# Altium footprint library NORA.PcbLib: 7 footprints
Each footprint in its own frame and in the unit in brackets; x right, y up, seen from the top. Pads: shape width x height; smd on the part's side, far side on the other; paste and mask are expansions set on the pad; w line width, h text height; cw(c..) or ccw(c..) is an arc to the next point about the centre after c.
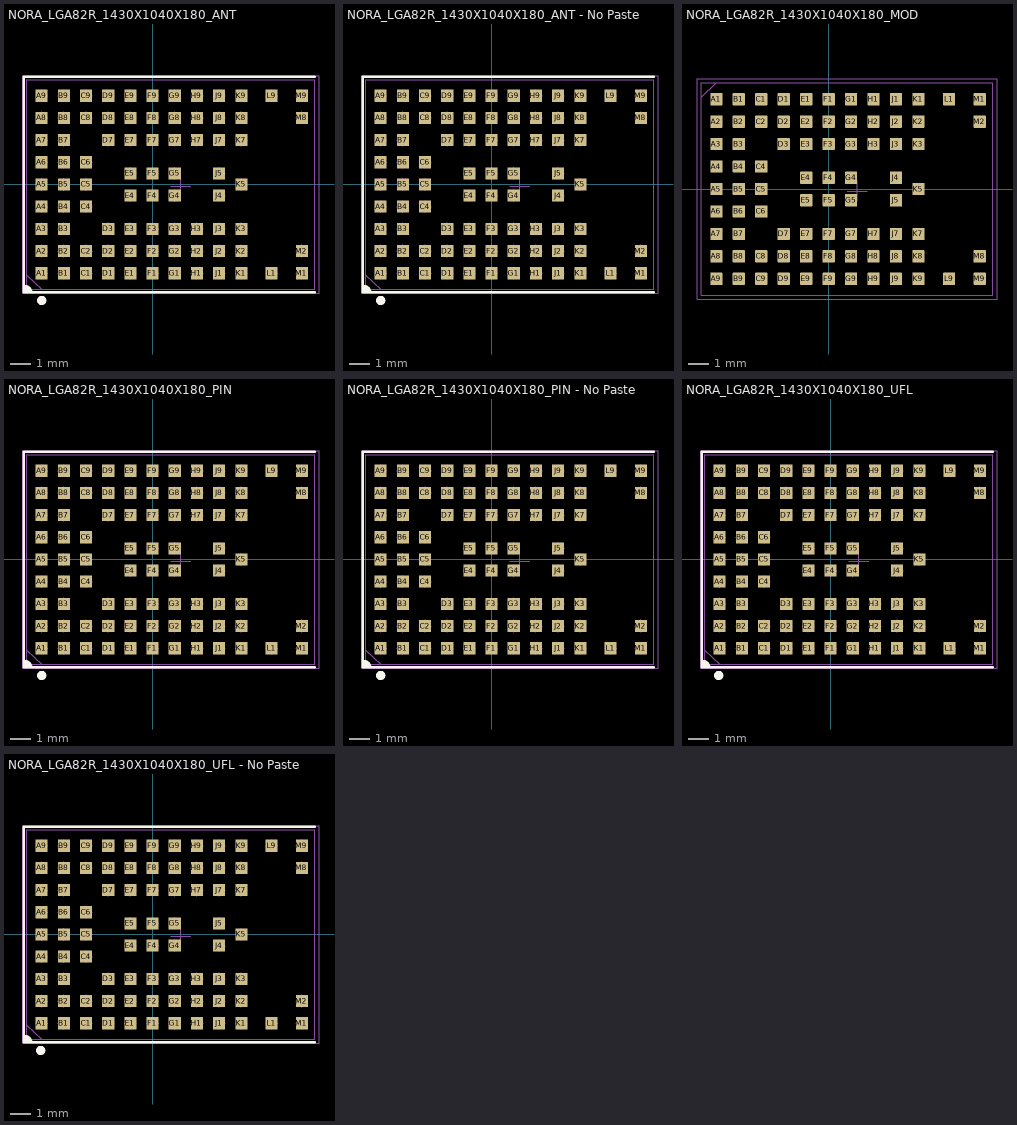
[diagram p0: the footprints below, top view; thin cyan lines are the x and y axes]

## NORA_LGA82R_1430X1040X180_ANT [mm] "NORA LGA, 82pin ,1.1mm Pitch, 14.3mm x 10.4mm"
height 1.8
pads (82):
  rect 0.6x0.6 smd: A1(-5.5,-4.4) A2(-5.5,-3.3) A3(-5.5,-2.2) A4(-5.5,-1.1) A5(-5.5,0) A6(-5.5,1.1) A7(-5.5,2.2) A8(-5.5,3.3) A9(-5.5,4.4) B1(-4.4,-4.4) B2(-4.4,-3.3) B3(-4.4,-2.2) B4(-4.4,-1.1) B5(-4.4,0) B6(-4.4,1.1) B7(-4.4,2.2) B8(-4.4,3.3) B9(-4.4,4.4) C1(-3.3,-4.4) C2(-3.3,-3.3) C4(-3.3,-1.1) C5(-3.3,0) C6(-3.3,1.1) C8(-3.3,3.3) C9(-3.3,4.4) D1(-2.2,-4.4) D2(-2.2,-3.3) D3(-2.2,-2.2) D7(-2.2,2.2) D8(-2.2,3.3) D9(-2.2,4.4) E1(-1.1,-4.4) E2(-1.1,-3.3) E3(-1.1,-2.2) E4(-1.1,-0.55) E5(-1.1,0.55) E7(-1.1,2.2) E8(-1.1,3.3) E9(-1.1,4.4) F1(0,-4.4) F2(0,-3.3) F3(0,-2.2) F4(0,-0.55) F5(0,0.55) F7(0,2.2) F8(0,3.3) F9(0,4.4) G1(1.1,-4.4) G2(1.1,-3.3) G3(1.1,-2.2) G4(1.1,-0.55) G5(1.1,0.55) G7(1.1,2.2) G8(1.1,3.3) G9(1.1,4.4) H1(2.2,-4.4) H2(2.2,-3.3) H3(2.2,-2.2) H7(2.2,2.2) H8(2.2,3.3) H9(2.2,4.4) J1(3.3,-4.4) J2(3.3,-3.3) J3(3.3,-2.2) J4(3.3,-0.55) J5(3.3,0.55) J7(3.3,2.2) J8(3.3,3.3) J9(3.3,4.4) K1(4.4,-4.4) K2(4.4,-3.3) K3(4.4,-2.2) K5(4.4,0) K7(4.4,2.2) K8(4.4,3.3) K9(4.4,4.4) L1(5.9,-4.4) L9(5.9,4.4) M1(7.4,-4.4) M2(7.4,-3.3) M8(7.4,3.3) M9(7.4,4.4)
Top Overlay:
  circle w0.254: c-5.5,-5.75 r0.1
  lines w0.127: 8.05,-5.35 -6.4,-5.35 -6.4,5.35 8.05,5.35
  lines w0.128: -6.343,-5.194 -6.193,-5.344 ; -6.3,-5.15 cw(c-6.3,-5.3) -6.15,-5.3 ; -6.3,-5.05 cw(c-6.325,-5.349) -6.025,-5.349
Mechanical 11:
  text ".Designator" at -1.075,-0.775 h1.5
Mechanical 13:
  lines w0.05: -6.25,-4.5 -5.5,-5.2 ; -6.25,-5.2 -6.25,5.2 8.05,5.2 8.05,-5.2 -6.25,-5.2
Mechanical 14:
  drawing of 328 lines, arcs and shapes, not listed
Mechanical 15:
  lines w0.05: 0.9,-0.1 1.9,-0.1 ; 1.4,-0.6 1.4,0.4 ; -6.45,-5.4 8.25,-5.4 8.25,5.4 -6.45,5.4 -6.45,-5.4
Mechanical 16:
  drawing of 492 lines, arcs and shapes, not listed
Multi-Layer:
  pour cut-out: 7.1,-4.1 7.1,-3.001 7.9,-2.998 7.9,-5.225 8.25,-5.225 8.25,5.325 7.9,5.325 7.9,3 7.1,3 7.1,4.1 4.7,4.1 4.7,-4.1
3D body "NORA-B506_v1.step": height 1.78, standoff -0.01, extent -6.25,-5.2 8.05,5.2

## NORA_LGA82R_1430X1040X180_ANT - No Paste [mm] "NORA LGA, 82pin ,1.1mm Pitch, 14.3mm x 10.4mm"
height 1.8
pads (82):
  rect 0.6x0.6 smd paste-10: A1(-5.5,-4.4) A2(-5.5,-3.3) A3(-5.5,-2.2) A4(-5.5,-1.1) A5(-5.5,0) A6(-5.5,1.1) A7(-5.5,2.2) A8(-5.5,3.3) A9(-5.5,4.4) B1(-4.4,-4.4) B2(-4.4,-3.3) B3(-4.4,-2.2) B4(-4.4,-1.1) B5(-4.4,0) B6(-4.4,1.1) B7(-4.4,2.2) B8(-4.4,3.3) B9(-4.4,4.4) C1(-3.3,-4.4) C2(-3.3,-3.3) C4(-3.3,-1.1) C5(-3.3,0) C6(-3.3,1.1) C8(-3.3,3.3) C9(-3.3,4.4) D1(-2.2,-4.4) D2(-2.2,-3.3) D3(-2.2,-2.2) D7(-2.2,2.2) D8(-2.2,3.3) D9(-2.2,4.4) E1(-1.1,-4.4) E2(-1.1,-3.3) E3(-1.1,-2.2) E4(-1.1,-0.55) E5(-1.1,0.55) E7(-1.1,2.2) E8(-1.1,3.3) E9(-1.1,4.4) F1(0,-4.4) F2(0,-3.3) F3(0,-2.2) F4(0,-0.55) F5(0,0.55) F7(0,2.2) F8(0,3.3) F9(0,4.4) G1(1.1,-4.4) G2(1.1,-3.3) G3(1.1,-2.2) G4(1.1,-0.55) G5(1.1,0.55) G7(1.1,2.2) G8(1.1,3.3) G9(1.1,4.4) H1(2.2,-4.4) H2(2.2,-3.3) H3(2.2,-2.2) H7(2.2,2.2) H8(2.2,3.3) H9(2.2,4.4) J1(3.3,-4.4) J2(3.3,-3.3) J3(3.3,-2.2) J4(3.3,-0.55) J5(3.3,0.55) J7(3.3,2.2) J8(3.3,3.3) J9(3.3,4.4) K1(4.4,-4.4) K2(4.4,-3.3) K3(4.4,-2.2) K5(4.4,0) K7(4.4,2.2) K8(4.4,3.3) K9(4.4,4.4) L1(5.9,-4.4) L9(5.9,4.4) M1(7.4,-4.4) M2(7.4,-3.3) M8(7.4,3.3) M9(7.4,4.4)
Top Overlay:
  circle w0.254: c-5.5,-5.75 r0.1
  lines w0.127: 8.05,-5.35 -6.4,-5.35 -6.4,5.35 8.05,5.35
  lines w0.128: -6.343,-5.194 -6.193,-5.344 ; -6.3,-5.15 cw(c-6.3,-5.3) -6.15,-5.3 ; -6.3,-5.05 cw(c-6.325,-5.349) -6.025,-5.349
Mechanical 11:
  text ".Designator" at -1.075,-0.775 h1.5
Mechanical 13:
  lines w0.05: -6.25,-4.5 -5.5,-5.2 ; -6.25,-5.2 8.05,-5.2 8.05,5.2 -6.25,5.2 -6.25,-5.2
Mechanical 14:
  drawing of 328 lines, arcs and shapes, not listed
Mechanical 15:
  lines w0.05: 0.9,-0.1 1.9,-0.1 ; 1.4,-0.6 1.4,0.4 ; -6.45,-5.4 -6.45,5.4 8.25,5.4 8.25,-5.4 -6.45,-5.4
Mechanical 16:
  drawing of 492 lines, arcs and shapes, not listed
Multi-Layer:
  pour cut-out: 7.1,-4.1 7.1,-3.001 7.9,-2.998 7.9,-5.225 8.25,-5.225 8.25,5.325 7.9,5.325 7.9,3 7.1,3 7.1,4.1 4.7,4.1 4.7,-4.1
3D body "NORA-B506_v1.step": height 1.78, standoff -0.01, extent -6.25,-5.2 8.05,5.2

## NORA_LGA82R_1430X1040X180_MOD [mm] "NORA LGA, 82pin ,1.1mm Pitch, 14.3mm x 10.4mm, to be used for modules"
height 1.8
pads (82):
  rrect10% 0.6x0.6 smd: A1(-5.5,4.4) A2(-5.5,3.3) A3(-5.5,2.2) A4(-5.5,1.1) A5(-5.5,0) A6(-5.5,-1.1) A7(-5.5,-2.2) A8(-5.5,-3.3) A9(-5.5,-4.4) B1(-4.4,4.4) B2(-4.4,3.3) B3(-4.4,2.2) B4(-4.4,1.1) B5(-4.4,0) B6(-4.4,-1.1) B7(-4.4,-2.2) B8(-4.4,-3.3) B9(-4.4,-4.4) C1(-3.3,4.4) C2(-3.3,3.3) C4(-3.3,1.1) C5(-3.3,0) C6(-3.3,-1.1) C8(-3.3,-3.3) C9(-3.3,-4.4) D1(-2.2,4.4) D2(-2.2,3.3) D3(-2.2,2.2) D7(-2.2,-2.2) D8(-2.2,-3.3) D9(-2.2,-4.4) E1(-1.1,4.4) E2(-1.1,3.3) E3(-1.1,2.2) E4(-1.1,0.55) E5(-1.1,-0.55) E7(-1.1,-2.2) E8(-1.1,-3.3) E9(-1.1,-4.4) F1(0,4.4) F2(0,3.3) F3(0,2.2) F4(0,0.55) F5(0,-0.55) F7(0,-2.2) F8(0,-3.3) F9(0,-4.4) G1(1.1,4.4) G2(1.1,3.3) G3(1.1,2.2) G4(1.1,0.55) G5(1.1,-0.55) G7(1.1,-2.2) G8(1.1,-3.3) G9(1.1,-4.4) H1(2.2,4.4) H2(2.2,3.3) H3(2.2,2.2) H7(2.2,-2.2) H8(2.2,-3.3) H9(2.2,-4.4) J1(3.3,4.4) J2(3.3,3.3) J3(3.3,2.2) J4(3.3,0.55) J5(3.3,-0.55) J7(3.3,-2.2) J8(3.3,-3.3) J9(3.3,-4.4) K1(4.4,4.4) K2(4.4,3.3) K3(4.4,2.2) K5(4.4,0) K7(4.4,-2.2) K8(4.4,-3.3) K9(4.4,-4.4) L1(5.9,4.4) L9(5.9,-4.4) M1(7.4,4.4) M2(7.4,3.3) M8(7.4,-3.3) M9(7.4,-4.4)
Mechanical 11:
  text ".Designator" at -1.075,-0.775 h0.5
Mechanical 13:
  lines w0.05: -6.25,4.5 -5.5,5.2 ; -6.25,-5.2 8.05,-5.2 8.05,5.2 -6.25,5.2 -6.25,-5.2
Mechanical 15:
  lines w0.05: 0.9,-0.1 1.9,-0.1 ; 1.4,-0.6 1.4,0.4 ; -6.45,-5.4 -6.45,5.4 8.25,5.4 8.25,-5.4 -6.45,-5.4

## NORA_LGA82R_1430X1040X180_PIN [mm] "NORA LGA, 82pin ,1.1mm Pitch, 14.3mm x 10.4mm"
height 1.8
pads (82):
  rect 0.6x0.6 smd: A1(-5.5,-4.4) A2(-5.5,-3.3) A3(-5.5,-2.2) A4(-5.5,-1.1) A5(-5.5,0) A6(-5.5,1.1) A7(-5.5,2.2) A8(-5.5,3.3) A9(-5.5,4.4) B1(-4.4,-4.4) B2(-4.4,-3.3) B3(-4.4,-2.2) B4(-4.4,-1.1) B5(-4.4,0) B6(-4.4,1.1) B7(-4.4,2.2) B8(-4.4,3.3) B9(-4.4,4.4) C1(-3.3,-4.4) C2(-3.3,-3.3) C4(-3.3,-1.1) C5(-3.3,0) C6(-3.3,1.1) C8(-3.3,3.3) C9(-3.3,4.4) D1(-2.2,-4.4) D2(-2.2,-3.3) D3(-2.2,-2.2) D7(-2.2,2.2) D8(-2.2,3.3) D9(-2.2,4.4) E1(-1.1,-4.4) E2(-1.1,-3.3) E3(-1.1,-2.2) E4(-1.1,-0.55) E5(-1.1,0.55) E7(-1.1,2.2) E8(-1.1,3.3) E9(-1.1,4.4) F1(0,-4.4) F2(0,-3.3) F3(0,-2.2) F4(0,-0.55) F5(0,0.55) F7(0,2.2) F8(0,3.3) F9(0,4.4) G1(1.1,-4.4) G2(1.1,-3.3) G3(1.1,-2.2) G4(1.1,-0.55) G5(1.1,0.55) G7(1.1,2.2) G8(1.1,3.3) G9(1.1,4.4) H1(2.2,-4.4) H2(2.2,-3.3) H3(2.2,-2.2) H7(2.2,2.2) H8(2.2,3.3) H9(2.2,4.4) J1(3.3,-4.4) J2(3.3,-3.3) J3(3.3,-2.2) J4(3.3,-0.55) J5(3.3,0.55) J7(3.3,2.2) J8(3.3,3.3) J9(3.3,4.4) K1(4.4,-4.4) K2(4.4,-3.3) K3(4.4,-2.2) K5(4.4,0) K7(4.4,2.2) K8(4.4,3.3) K9(4.4,4.4) L1(5.9,-4.4) L9(5.9,4.4) M1(7.4,-4.4) M2(7.4,-3.3) M8(7.4,3.3) M9(7.4,4.4)
Top Overlay:
  circle w0.254: c-5.5,-5.75 r0.1
  lines w0.127: 8.05,-5.35 -6.4,-5.35 -6.4,5.35 8.05,5.35
  lines w0.128: -6.343,-5.194 -6.193,-5.344 ; -6.3,-5.15 cw(c-6.3,-5.3) -6.15,-5.3 ; -6.3,-5.05 cw(c-6.325,-5.349) -6.025,-5.349
Mechanical 11:
  text ".Designator" at -1.075,-0.775 h1.5
Mechanical 13:
  lines w0.05: -6.25,-4.5 -5.5,-5.2 ; -6.25,-5.2 8.05,-5.2 8.05,5.2 -6.25,5.2 -6.25,-5.2
Mechanical 14:
  drawing of 328 lines, arcs and shapes, not listed
Mechanical 15:
  lines w0.05: 0.9,-0.1 1.9,-0.1 ; 1.4,-0.6 1.4,0.4 ; -6.45,-5.4 -6.45,5.4 8.25,5.4 8.25,-5.4 -6.45,-5.4
Mechanical 16:
  drawing of 492 lines, arcs and shapes, not listed
Multi-Layer:
  pour cut-out: 7.1,-4.1 7.1,-3.001 7.9,-2.998 7.9,-5.225 8.25,-5.225 8.25,5.325 7.9,5.325 7.9,3 7.1,3 7.1,4.1 4.7,4.1 4.7,-4.1
3D body "NORA-B101_revA.step": height 1.78, standoff -0.01, extent -6.25,-5.2 8.05,5.2

## NORA_LGA82R_1430X1040X180_PIN - No Paste [mm] "NORA LGA, 82pin ,1.1mm Pitch, 14.3mm x 10.4mm"
height 1.8
pads (82):
  rect 0.6x0.6 smd paste-10: A1(-5.5,-4.4) A2(-5.5,-3.3) A3(-5.5,-2.2) A4(-5.5,-1.1) A5(-5.5,0) A6(-5.5,1.1) A7(-5.5,2.2) A8(-5.5,3.3) A9(-5.5,4.4) B1(-4.4,-4.4) B2(-4.4,-3.3) B3(-4.4,-2.2) B4(-4.4,-1.1) B5(-4.4,0) B6(-4.4,1.1) B7(-4.4,2.2) B8(-4.4,3.3) B9(-4.4,4.4) C1(-3.3,-4.4) C2(-3.3,-3.3) C4(-3.3,-1.1) C5(-3.3,0) C6(-3.3,1.1) C8(-3.3,3.3) C9(-3.3,4.4) D1(-2.2,-4.4) D2(-2.2,-3.3) D3(-2.2,-2.2) D7(-2.2,2.2) D8(-2.2,3.3) D9(-2.2,4.4) E1(-1.1,-4.4) E2(-1.1,-3.3) E3(-1.1,-2.2) E4(-1.1,-0.55) E5(-1.1,0.55) E7(-1.1,2.2) E8(-1.1,3.3) E9(-1.1,4.4) F1(0,-4.4) F2(0,-3.3) F3(0,-2.2) F4(0,-0.55) F5(0,0.55) F7(0,2.2) F8(0,3.3) F9(0,4.4) G1(1.1,-4.4) G2(1.1,-3.3) G3(1.1,-2.2) G4(1.1,-0.55) G5(1.1,0.55) G7(1.1,2.2) G8(1.1,3.3) G9(1.1,4.4) H1(2.2,-4.4) H2(2.2,-3.3) H3(2.2,-2.2) H7(2.2,2.2) H8(2.2,3.3) H9(2.2,4.4) J1(3.3,-4.4) J2(3.3,-3.3) J3(3.3,-2.2) J4(3.3,-0.55) J5(3.3,0.55) J7(3.3,2.2) J8(3.3,3.3) J9(3.3,4.4) K1(4.4,-4.4) K2(4.4,-3.3) K3(4.4,-2.2) K5(4.4,0) K7(4.4,2.2) K8(4.4,3.3) K9(4.4,4.4) L1(5.9,-4.4) L9(5.9,4.4) M1(7.4,-4.4) M2(7.4,-3.3) M8(7.4,3.3) M9(7.4,4.4)
Top Overlay:
  circle w0.254: c-5.5,-5.75 r0.1
  lines w0.127: 8.05,-5.35 -6.4,-5.35 -6.4,5.35 8.05,5.35
  lines w0.128: -6.343,-5.194 -6.193,-5.344 ; -6.3,-5.15 cw(c-6.3,-5.3) -6.15,-5.3 ; -6.3,-5.05 cw(c-6.325,-5.349) -6.025,-5.349
Mechanical 11:
  text ".Designator" at -1.075,-0.775 h1.5
Mechanical 13:
  lines w0.05: -6.25,-4.5 -5.5,-5.2 ; -6.25,-5.2 -6.25,5.2 8.05,5.2 8.05,-5.2 -6.25,-5.2
Mechanical 14:
  drawing of 328 lines, arcs and shapes, not listed
Mechanical 15:
  lines w0.05: 0.9,-0.1 1.9,-0.1 ; 1.4,-0.6 1.4,0.4 ; -6.45,-5.4 8.25,-5.4 8.25,5.4 -6.45,5.4 -6.45,-5.4
Mechanical 16:
  drawing of 492 lines, arcs and shapes, not listed
Multi-Layer:
  pour cut-out: 7.1,-4.1 7.1,-3.001 7.9,-2.998 7.9,-5.225 8.25,-5.225 8.25,5.325 7.9,5.325 7.9,3 7.1,3 7.1,4.1 4.7,4.1 4.7,-4.1
3D body "NORA-B101_revA.step": height 1.78, standoff -0.01, extent -6.25,-5.2 8.05,5.2

## NORA_LGA82R_1430X1040X180_UFL [mm] "NORA LGA, 82pin ,1.1mm Pitch, 14.3mm x 10.4mm"
height 1.8
pads (82):
  rect 0.6x0.6 smd: A1(-5.5,-4.4) A2(-5.5,-3.3) A3(-5.5,-2.2) A4(-5.5,-1.1) A5(-5.5,0) A6(-5.5,1.1) A7(-5.5,2.2) A8(-5.5,3.3) A9(-5.5,4.4) B1(-4.4,-4.4) B2(-4.4,-3.3) B3(-4.4,-2.2) B4(-4.4,-1.1) B5(-4.4,0) B6(-4.4,1.1) B7(-4.4,2.2) B8(-4.4,3.3) B9(-4.4,4.4) C1(-3.3,-4.4) C2(-3.3,-3.3) C4(-3.3,-1.1) C5(-3.3,0) C6(-3.3,1.1) C8(-3.3,3.3) C9(-3.3,4.4) D1(-2.2,-4.4) D2(-2.2,-3.3) D3(-2.2,-2.2) D7(-2.2,2.2) D8(-2.2,3.3) D9(-2.2,4.4) E1(-1.1,-4.4) E2(-1.1,-3.3) E3(-1.1,-2.2) E4(-1.1,-0.55) E5(-1.1,0.55) E7(-1.1,2.2) E8(-1.1,3.3) E9(-1.1,4.4) F1(0,-4.4) F2(0,-3.3) F3(0,-2.2) F4(0,-0.55) F5(0,0.55) F7(0,2.2) F8(0,3.3) F9(0,4.4) G1(1.1,-4.4) G2(1.1,-3.3) G3(1.1,-2.2) G4(1.1,-0.55) G5(1.1,0.55) G7(1.1,2.2) G8(1.1,3.3) G9(1.1,4.4) H1(2.2,-4.4) H2(2.2,-3.3) H3(2.2,-2.2) H7(2.2,2.2) H8(2.2,3.3) H9(2.2,4.4) J1(3.3,-4.4) J2(3.3,-3.3) J3(3.3,-2.2) J4(3.3,-0.55) J5(3.3,0.55) J7(3.3,2.2) J8(3.3,3.3) J9(3.3,4.4) K1(4.4,-4.4) K2(4.4,-3.3) K3(4.4,-2.2) K5(4.4,0) K7(4.4,2.2) K8(4.4,3.3) K9(4.4,4.4) L1(5.9,-4.4) L9(5.9,4.4) M1(7.4,-4.4) M2(7.4,-3.3) M8(7.4,3.3) M9(7.4,4.4)
Top Overlay:
  circle w0.254: c-5.55,-5.75 r0.1
  lines w0.127: 8.05,-5.35 -6.4,-5.35 -6.4,5.35 8.05,5.35
  lines w0.128: -6.343,-5.194 -6.193,-5.344 ; -6.3,-5.15 cw(c-6.3,-5.3) -6.15,-5.3 ; -6.3,-5.05 cw(c-6.325,-5.349) -6.025,-5.349
Mechanical 11:
  text ".Designator" at -1.075,-0.775 h1.5
Mechanical 13:
  lines w0.05: -6.25,-4.5 -5.5,-5.2 ; -6.25,-5.2 -6.25,5.2 8.05,5.2 8.05,-5.2 -6.25,-5.2
Mechanical 14:
  drawing of 328 lines, arcs and shapes, not listed
Mechanical 15:
  lines w0.05: 0.9,-0.1 1.9,-0.1 ; 1.4,-0.6 1.4,0.4 ; -6.45,-5.4 8.25,-5.4 8.25,5.4 -6.45,5.4 -6.45,-5.4
Mechanical 16:
  drawing of 492 lines, arcs and shapes, not listed
Multi-Layer:
  pour cut-out: 7.1,-4.1 7.1,-3.001 7.9,-2.998 7.9,-5.225 8.25,-5.225 8.25,5.325 7.9,5.325 7.9,3 7.1,3 7.1,4.1 4.7,4.1 4.7,-4.1
3D body "NORA-B100_revA.step": height 1.78, standoff -0.01, extent -6.25,-5.2 8.05,5.2

## NORA_LGA82R_1430X1040X180_UFL - No Paste [mm] "NORA LGA, 82pin ,1.1mm Pitch, 14.3mm x 10.4mm"
height 1.8
pads (82):
  rect 0.6x0.6 smd paste-10: A1(-5.5,-4.4) A2(-5.5,-3.3) A3(-5.5,-2.2) A4(-5.5,-1.1) A5(-5.5,0) A6(-5.5,1.1) A7(-5.5,2.2) A8(-5.5,3.3) A9(-5.5,4.4) B1(-4.4,-4.4) B2(-4.4,-3.3) B3(-4.4,-2.2) B4(-4.4,-1.1) B5(-4.4,0) B6(-4.4,1.1) B7(-4.4,2.2) B8(-4.4,3.3) B9(-4.4,4.4) C1(-3.3,-4.4) C2(-3.3,-3.3) C4(-3.3,-1.1) C5(-3.3,0) C6(-3.3,1.1) C8(-3.3,3.3) C9(-3.3,4.4) D1(-2.2,-4.4) D2(-2.2,-3.3) D3(-2.2,-2.2) D7(-2.2,2.2) D8(-2.2,3.3) D9(-2.2,4.4) E1(-1.1,-4.4) E2(-1.1,-3.3) E3(-1.1,-2.2) E4(-1.1,-0.55) E5(-1.1,0.55) E7(-1.1,2.2) E8(-1.1,3.3) E9(-1.1,4.4) F1(0,-4.4) F2(0,-3.3) F3(0,-2.2) F4(0,-0.55) F5(0,0.55) F7(0,2.2) F8(0,3.3) F9(0,4.4) G1(1.1,-4.4) G2(1.1,-3.3) G3(1.1,-2.2) G4(1.1,-0.55) G5(1.1,0.55) G7(1.1,2.2) G8(1.1,3.3) G9(1.1,4.4) H1(2.2,-4.4) H2(2.2,-3.3) H3(2.2,-2.2) H7(2.2,2.2) H8(2.2,3.3) H9(2.2,4.4) J1(3.3,-4.4) J2(3.3,-3.3) J3(3.3,-2.2) J4(3.3,-0.55) J5(3.3,0.55) J7(3.3,2.2) J8(3.3,3.3) J9(3.3,4.4) K1(4.4,-4.4) K2(4.4,-3.3) K3(4.4,-2.2) K5(4.4,0) K7(4.4,2.2) K8(4.4,3.3) K9(4.4,4.4) L1(5.9,-4.4) L9(5.9,4.4) M1(7.4,-4.4) M2(7.4,-3.3) M8(7.4,3.3) M9(7.4,4.4)
Top Overlay:
  circle w0.254: c-5.55,-5.75 r0.1
  lines w0.127: 8.05,-5.35 -6.4,-5.35 -6.4,5.35 8.05,5.35
  lines w0.128: -6.343,-5.194 -6.193,-5.344 ; -6.3,-5.15 cw(c-6.3,-5.3) -6.15,-5.3 ; -6.3,-5.05 cw(c-6.325,-5.349) -6.025,-5.349
Mechanical 11:
  text ".Designator" at -1.075,-0.775 h1.5
Mechanical 13:
  lines w0.05: -6.25,-4.5 -5.5,-5.2 ; -6.25,-5.2 -6.25,5.2 8.05,5.2 8.05,-5.2 -6.25,-5.2
Mechanical 14:
  drawing of 328 lines, arcs and shapes, not listed
Mechanical 15:
  lines w0.05: 0.9,-0.1 1.9,-0.1 ; 1.4,-0.6 1.4,0.4 ; -6.45,-5.4 8.25,-5.4 8.25,5.4 -6.45,5.4 -6.45,-5.4
Mechanical 16:
  drawing of 492 lines, arcs and shapes, not listed
Multi-Layer:
  pour cut-out: 7.1,-4.1 7.1,-3.001 7.9,-2.998 7.9,-5.225 8.25,-5.225 8.25,5.325 7.9,5.325 7.9,3 7.1,3 7.1,4.1 4.7,4.1 4.7,-4.1
3D body "NORA-B100_revA.step": height 1.78, standoff -0.01, extent -6.25,-5.2 8.05,5.2